# Altium schematic symbol library base-32-bit.SCHLIB: 29 symbols
Pins are listed as number, name and electrical type; pins without a type are passive.

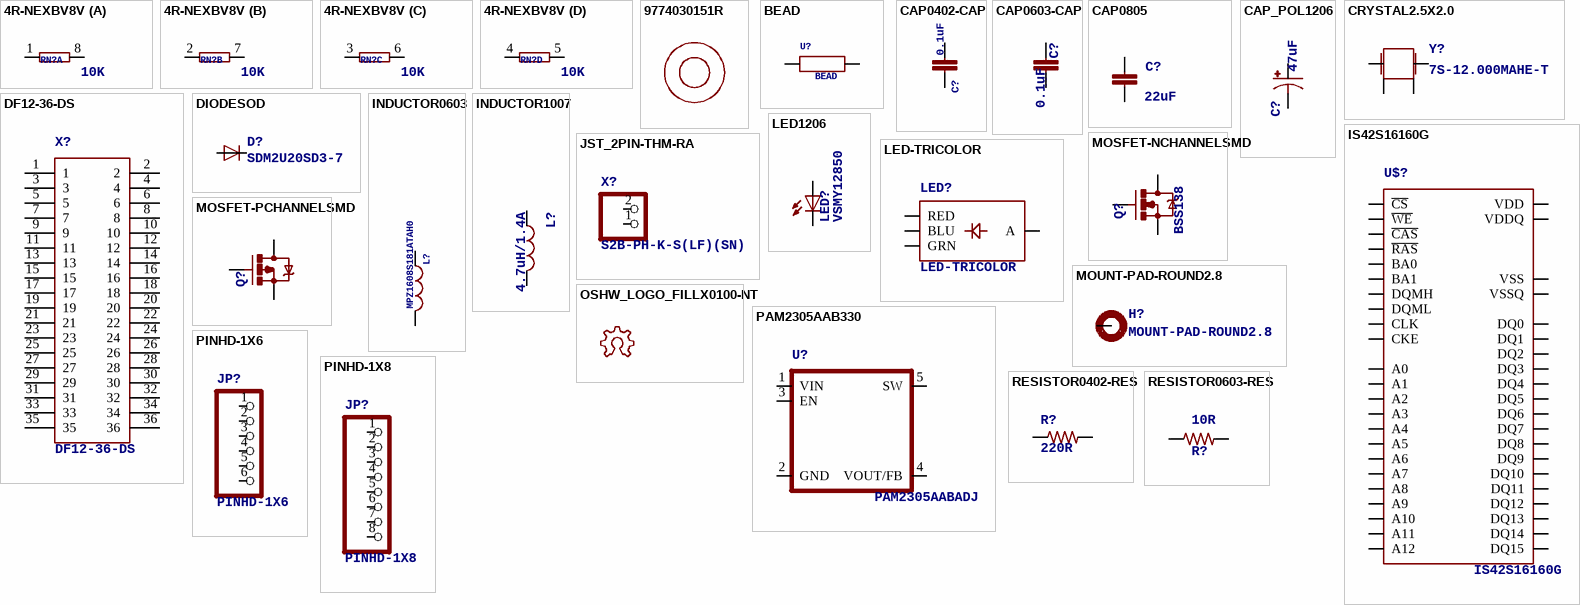
[diagram p0: symbols 4R-NEXBV8V to RESISTOR0603-RES]

## 4R-NEXBV8V
designator RN?, comment 10K
Array Chip Resistor   Source: RS Component / Phycomp; OC_FARNELL: unknown; OC_NEWARK: unknown
footprint EXBV8V
footprint EXBV8V
footprint EXBV8V
footprint EXBV8V
part A pins: 1, 8 2
part B pins: 2 1, 7 2
part C pins: 3 1, 6 2
part D pins: 4 1, 5 2

## 9774030151R
designator M?, comment 9774030243R  (value not drawn)
footprint 9774030151R

## BEAD
designator U?
footprint 0402-CAP
pins: 1, 2

## CAP0402-CAP
designator C?, comment 0.1uF
CapacitorStandard 0603 ceramic capacitor, and 0.1" leaded capacitor.
footprint 0402-CAP
pins: 1, 2

## CAP0603-CAP
designator C?, comment 0.1uF
CapacitorStandard 0603 ceramic capacitor, and 0.1" leaded capacitor.
footprint 0603-CAP
pins: 1, 2

## CAP0805
designator C?, comment 22uF
CapacitorStandard 0603 ceramic capacitor, and 0.1" leaded capacitor.
footprint 0805
pins: 1, 2

## CAP_POL1206
designator C?, comment 47uF
Capacitor PolarizedThese are standard SMD and PTH capacitors. Normally 10uF, 47uF, and 100uF in electrolytic and tantalum varieties. Always verify the external diameter of the through hole cap, it varies with capacity, voltage, and manufacturer. The EIA devices should be standard.
footprint EIA3216
pins: A +, C -

## CRYSTAL2.5X2.0
designator Y?, comment 7S-12.000MAHE-T
CrystalsVarious standard crystals. Proven footprints. Spark Fun Electronics SKU : COM-00534
footprint CRYSTAL-2.5X2.0
pins: 1, 2 P$1 (oe), 3 2, 4 P$2 (oe)

## DF12-36-DS
designator X?
footprint DF12-36-DS
pins: 1, 2, 3, 4, 5, 6, 7, 8, 9, 10, 11, 12, 13, 14, 15, 16, 17, 18, 19, 20, 21, 22, 23, 24, 25, 26, 27, 28, 29, 30, 31, 32, 33, 34, 35, 36

## DIODESOD
designator D?, comment SDM2U20SD3-7
DiodeThese are standard reverse protection diodes and small signal diodes. SMA package can handle up to about 1A. SOD-323 can handle about 200mA. What the SOD-323 package when ordering, there are some mfgs out there that are 5-pin packages.
footprint SOD-323
pins: 1 C, 2 A

## INDUCTOR0603
designator L?, comment MPZ1608S181ATAH0
InductorsBasic Inductor/Choke - 0603 and 1206. Footprints are not proven and vary greatly between part numbers.
footprint 0603
pins: 1, 2

## INDUCTOR1007
designator L?, comment 4.7uH/1.4A
InductorsBasic Inductor/Choke - 0603 and 1206. Footprints are not proven and vary greatly between part numbers.
footprint 1007
pins: 1, 2

## IS42S16160G
designator U$?
footprint TSOPII-54
pins: 1 14 27 VDD (power), 2 DQ0 (hiz), 3 9 43 49 VDDQ (power), 4 DQ1 (hiz), 5 DQ2 (hiz), 6 12 46 52 VSSQ (power), 7 DQ3 (hiz), 8 DQ4 (hiz), 10 DQ5 (hiz), 11 DQ6 (hiz), 13 DQ7 (hiz), 15 DQML, 16 ~{WE}, 17 ~{CAS}, 18 ~{RAS}, 19 ~{CS}, 20 BA0, 21 BA1, 22 A10, 23 A0, 24 A1, 25 A2, 26 A3, 28 41 54 VSS (power), 29 A4, 30 A5, 31 A6, 32 A7, 33 A8, 34 A9, 35 A11, 36 A12, 37 CKE, 38 CLK, 39 DQMH, 42 DQ8 (hiz), 44 DQ9 (hiz), 45 DQ10 (hiz), 47 DQ11 (hiz), 48 DQ12 (hiz), 50 DQ13 (hiz), 51 DQ14 (hiz), 53 DQ15 (hiz)

## JST_2PIN-THM-RA
designator X?, comment S2B-PH-K-S(LF)(SN)
JST 2-Pin Connectors of various flavors SMT-RA (S2B-PH-SM4) 4UConnector #17311  SMT  (B2B-PH-SM4)  THM-RA (S2B-PH)  THM  (B2B-PH)
footprint JST-PH-2-THM-RA
pins: 1 2, 2 1

## LED1206
designator LED?, comment VSMY12850
LEDsStandard schematic elements and footprints for 5mm, 3mm, 1206, and 0603 sized LEDs. 5mm - Spark Fun Electronics SKU : COM-00529 (and others)
footprint LED-1206
pins: A, C

## LED-TRICOLOR
designator LED?
Tri-Color LED SMDProven layout and schematic for triple color LED in SMD package - common anode. Spark Fun Electronics SKU : COM-07844
footprint LED-TRICOLOR-SMD
pins: A, B BLU, G GRN, R RED

## MOSFET-NCHANNELSMD
designator Q?, comment BSS138
footprint SOT23-3
pins: 1 G, 2 S, 3 D

## MOSFET-PCHANNELSMD
designator Q?, comment Si2301BDS  (value not drawn)
footprint SOT23-3
pins: 1 G, 2 S, 3 D

## MOUNT-PAD-ROUND2.8
designator H?
MOUNTING PAD, round
footprint 2,8-PAD
pins: B2,8 MOUNT

## OSHW_LOGO_FILLX0100-NT
designator LOGO?  (value not drawn)
footprint OSHW_FILLX100_NOTEXT

## PAM2305AAB330
designator U?, comment PAM2305AABADJ
footprint TSOT25
pins: 1 VIN (power), 2 GND (power), 3 EN, 4 VOUT/FB, 5 SW (power)

## PINHD-1X6
designator JP?
PIN HEADER
footprint 1X06
pins: 1, 2, 3, 4, 5, 6

## PINHD-1X8
designator JP?
PIN HEADER
footprint 1X08
pins: 1, 2, 3, 4, 5, 6, 7, 8

## RESISTOR0402-RES
designator R?, comment 220R
ResistorBasic schematic elements and footprints for 0603, 1206, and PTH resistors.
footprint 0402-RES
pins: 1, 2

## RESISTOR0603-RES
designator R?, comment 10R
ResistorBasic schematic elements and footprints for 0603, 1206, and PTH resistors.
footprint 0603-RES
pins: 1, 2

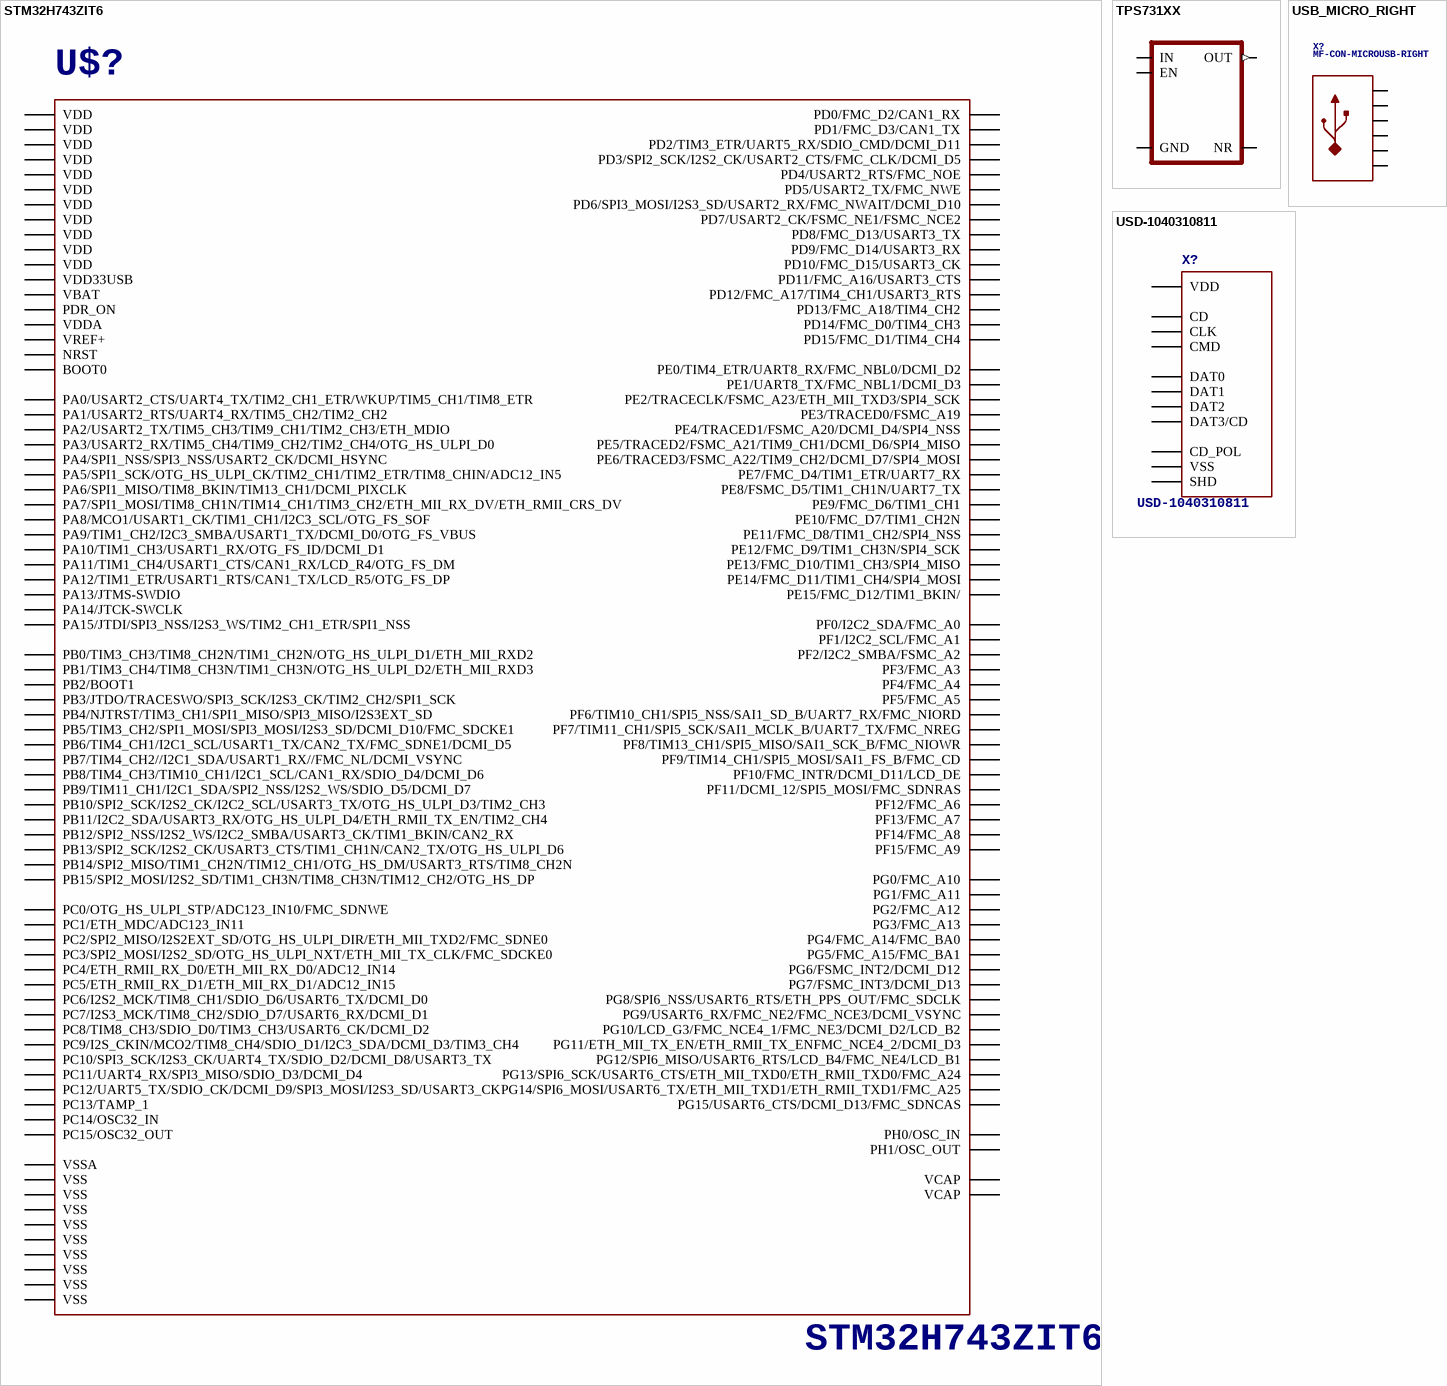
[diagram p1: symbols STM32H743ZIT6 to USD-1040310811]

## STM32H743ZIT6
designator U$?
footprint LQFP144@1
pins: 1 PE2/TRACECLK/FSMC_A23/ETH_MII_TXD3/SPI4_SCK, 2 PE3/TRACED0/FSMC_A19, 3 PE4/TRACED1/FSMC_A20/DCMI_D4/SPI4_NSS, 4 PE5/TRACED2/FSMC_A21/TIM9_CH1/DCMI_D6/SPI4_MISO, 5 PE6/TRACED3/FSMC_A22/TIM9_CH2/DCMI_D7/SPI4_MOSI, 6 VBAT (power), 7 PC13/TAMP_1, 8 PC14/OSC32_IN, 9 PC15/OSC32_OUT, 10 PF0/I2C2_SDA/FMC_A0, 11 PF1/I2C2_SCL/FMC_A1, 12 PF2/I2C2_SMBA/FSMC_A2, 13 PF3/FMC_A3, 14 PF4/FMC_A4, 15 PF5/FMC_A5, 16 VSS (power), 17 VDD (power), 18 PF6/TIM10_CH1/SPI5_NSS/SAI1_SD_B/UART7_RX/FMC_NIORD, 19 PF7/TIM11_CH1/SPI5_SCK/SAI1_MCLK_B/UART7_TX/FMC_NREG, 20 PF8/TIM13_CH1/SPI5_MISO/SAI1_SCK_B/FMC_NIOWR, 21 PF9/TIM14_CH1/SPI5_MOSI/SAI1_FS_B/FMC_CD, 22 PF10/FMC_INTR/DCMI_D11/LCD_DE, 23 PH0/OSC_IN, 24 PH1/OSC_OUT, 25 NRST, 26 PC0/OTG_HS_ULPI_STP/ADC123_IN10/FMC_SDNWE, 27 PC1/ETH_MDC/ADC123_IN11, 28 PC2/SPI2_MISO/I2S2EXT_SD/OTG_HS_ULPI_DIR/ETH_MII_TXD2/FMC_SDNE0, 29 PC3/SPI2_MOSI/I2S2_SD/OTG_HS_ULPI_NXT/ETH_MII_TX_CLK/FMC_SDCKE0, 30 VDD (power), 31 VSSA (power), 32 VREF+ (power), 33 VDDA (power), 34 PA0/USART2_CTS/UART4_TX/TIM2_CH1_ETR/WKUP/TIM5_CH1/TIM8_ETR, 35 PA1/USART2_RTS/UART4_RX/TIM5_CH2/TIM2_CH2, 36 PA2/USART2_TX/TIM5_CH3/TIM9_CH1/TIM2_CH3/ETH_MDIO, 37 PA3/USART2_RX/TIM5_CH4/TIM9_CH2/TIM2_CH4/OTG_HS_ULPI_D0, 38 VSS (power), 39 VDD (power), 40 PA4/SPI1_NSS/SPI3_NSS/USART2_CK/DCMI_HSYNC, 41 PA5/SPI1_SCK/OTG_HS_ULPI_CK/TIM2_CH1/TIM2_ETR/TIM8_CHIN/ADC12_IN5, 42 PA6/SPI1_MISO/TIM8_BKIN/TIM13_CH1/DCMI_PIXCLK, 43 PA7/SPI1_MOSI/TIM8_CH1N/TIM14_CH1/TIM3_CH2/ETH_MII_RX_DV/ETH_RMII_CRS_DV, 44 PC4/ETH_RMII_RX_D0/ETH_MII_RX_D0/ADC12_IN14, 45 PC5/ETH_RMII_RX_D1/ETH_MII_RX_D1/ADC12_IN15, 46 PB0/TIM3_CH3/TIM8_CH2N/TIM1_CH2N/OTG_HS_ULPI_D1/ETH_MII_RXD2, 47 PB1/TIM3_CH4/TIM8_CH3N/TIM1_CH3N/OTG_HS_ULPI_D2/ETH_MII_RXD3, 48 PB2/BOOT1, 49 PF11/DCMI_12/SPI5_MOSI/FMC_SDNRAS, 50 PF12/FMC_A6, 51 VSS (power), 52 VDD (power), 53 PF13/FMC_A7, 54 PF14/FMC_A8, 55 PF15/FMC_A9, 56 PG0/FMC_A10, 57 PG1/FMC_A11, 58 PE7/FMC_D4/TIM1_ETR/UART7_RX, 59 PE8/FSMC_D5/TIM1_CH1N/UART7_TX, 60 PE9/FMC_D6/TIM1_CH1, 61 VSS (power), 62 VDD (power), 63 PE10/FMC_D7/TIM1_CH2N, 64 PE11/FMC_D8/TIM1_CH2/SPI4_NSS, 65 PE12/FMC_D9/TIM1_CH3N/SPI4_SCK, 66 PE13/FMC_D10/TIM1_CH3/SPI4_MISO, 67 PE14/FMC_D11/TIM1_CH4/SPI4_MOSI, 68 PE15/FMC_D12/TIM1_BKIN/, 69 PB10/SPI2_SCK/I2S2_CK/I2C2_SCL/USART3_TX/OTG_HS_ULPI_D3/TIM2_CH3, 70 PB11/I2C2_SDA/USART3_RX/OTG_HS_ULPI_D4/ETH_RMII_TX_EN/TIM2_CH4, 71 VCAP (power), 72 VDD (power), 73 PB12/SPI2_NSS/I2S2_WS/I2C2_SMBA/USART3_CK/TIM1_BKIN/CAN2_RX, 74 PB13/SPI2_SCK/I2S2_CK/USART3_CTS/TIM1_CH1N/CAN2_TX/OTG_HS_ULPI_D6, 75 PB14/SPI2_MISO/TIM1_CH2N/TIM12_CH1/OTG_HS_DM/USART3_RTS/TIM8_CH2N, 76 PB15/SPI2_MOSI/I2S2_SD/TIM1_CH3N/TIM8_CH3N/TIM12_CH2/OTG_HS_DP, 77 PD8/FMC_D13/USART3_TX, 78 PD9/FMC_D14/USART3_RX, 79 PD10/FMC_D15/USART3_CK, 80 PD11/FMC_A16/USART3_CTS, 81 PD12/FMC_A17/TIM4_CH1/USART3_RTS, 82 PD13/FMC_A18/TIM4_CH2, 83 VSS (power), 84 VDD (power), 85 PD14/FMC_D0/TIM4_CH3, 86 PD15/FMC_D1/TIM4_CH4, 87 PG2/FMC_A12, 88 PG3/FMC_A13, 89 PG4/FMC_A14/FMC_BA0, 90 PG5/FMC_A15/FMC_BA1, 91 PG6/FSMC_INT2/DCMI_D12, 92 PG7/FSMC_INT3/DCMI_D13, 93 PG8/SPI6_NSS/USART6_RTS/ETH_PPS_OUT/FMC_SDCLK, 94 VSS (power), 95 VDD33USB (power), 96 PC6/I2S2_MCK/TIM8_CH1/SDIO_D6/USART6_TX/DCMI_D0, 97 PC7/I2S3_MCK/TIM8_CH2/SDIO_D7/USART6_RX/DCMI_D1, 98 PC8/TIM8_CH3/SDIO_D0/TIM3_CH3/USART6_CK/DCMI_D2, 99 PC9/I2S_CKIN/MCO2/TIM8_CH4/SDIO_D1/I2C3_SDA/DCMI_D3/TIM3_CH4, 100 PA8/MCO1/USART1_CK/TIM1_CH1/I2C3_SCL/OTG_FS_SOF, 101 PA9/TIM1_CH2/I2C3_SMBA/USART1_TX/DCMI_D0/OTG_FS_VBUS, 102 PA10/TIM1_CH3/USART1_RX/OTG_FS_ID/DCMI_D1, 103 PA11/TIM1_CH4/USART1_CTS/CAN1_RX/LCD_R4/OTG_FS_DM, 104 PA12/TIM1_ETR/USART1_RTS/CAN1_TX/LCD_R5/OTG_FS_DP, 105 PA13/JTMS-SWDIO, 106 VCAP (power), 107 VSS (power), 108 VDD (power), 109 PA14/JTCK-SWCLK, 110 PA15/JTDI/SPI3_NSS/I2S3_WS/TIM2_CH1_ETR/SPI1_NSS, 111 PC10/SPI3_SCK/I2S3_CK/UART4_TX/SDIO_D2/DCMI_D8/USART3_TX, 112 PC11/UART4_RX/SPI3_MISO/SDIO_D3/DCMI_D4, 113 PC12/UART5_TX/SDIO_CK/DCMI_D9/SPI3_MOSI/I2S3_SD/USART3_CK, 114 PD0/FMC_D2/CAN1_RX, 115 PD1/FMC_D3/CAN1_TX, 116 PD2/TIM3_ETR/UART5_RX/SDIO_CMD/DCMI_D11, 117 PD3/SPI2_SCK/I2S2_CK/USART2_CTS/FMC_CLK/DCMI_D5, 118 PD4/USART2_RTS/FMC_NOE, 119 PD5/USART2_TX/FMC_NWE, 120 VSS (power), 121 VDD (power), 122 PD6/SPI3_MOSI/I2S3_SD/USART2_RX/FMC_NWAIT/DCMI_D10, 123 PD7/USART2_CK/FSMC_NE1/FSMC_NCE2, 124 PG9/USART6_RX/FMC_NE2/FMC_NCE3/DCMI_VSYNC, 125 PG10/LCD_G3/FMC_NCE4_1/FMC_NE3/DCMI_D2/LCD_B2, 126 PG11/ETH_MII_TX_EN/ETH_RMII_TX_ENFMC_NCE4_2/DCMI_D3, 127 PG12/SPI6_MISO/USART6_RTS/LCD_B4/FMC_NE4/LCD_B1, 128 PG13/SPI6_SCK/USART6_CTS/ETH_MII_TXD0/ETH_RMII_TXD0/FMC_A24, 129 PG14/SPI6_MOSI/USART6_TX/ETH_MII_TXD1/ETH_RMII_TXD1/FMC_A25, 130 VSS (power), 131 VDD (power), 132 PG15/USART6_CTS/DCMI_D13/FMC_SDNCAS, 133 PB3/JTDO/TRACESWO/SPI3_SCK/I2S3_CK/TIM2_CH2/SPI1_SCK, 134 PB4/NJTRST/TIM3_CH1/SPI1_MISO/SPI3_MISO/I2S3EXT_SD, 135 PB5/TIM3_CH2/SPI1_MOSI/SPI3_MOSI/I2S3_SD/DCMI_D10/FMC_SDCKE1, 136 PB6/TIM4_CH1/I2C1_SCL/USART1_TX/CAN2_TX/FMC_SDNE1/DCMI_D5, 137 PB7/TIM4_CH2//I2C1_SDA/USART1_RX//FMC_NL/DCMI_VSYNC, 138 BOOT0, 139 PB8/TIM4_CH3/TIM10_CH1/I2C1_SCL/CAN1_RX/SDIO_D4/DCMI_D6, 140 PB9/TIM11_CH1/I2C1_SDA/SPI2_NSS/I2S2_WS/SDIO_D5/DCMI_D7, 141 PE0/TIM4_ETR/UART8_RX/FMC_NBL0/DCMI_D2, 142 PE1/UART8_TX/FMC_NBL1/DCMI_D3, 143 PDR_ON, 144 VDD (power)

## TPS731XX
designator U?  (value not drawn)
footprint SOT23-5
pins: 1 IN, 2 GND, 3 EN, 4 NR, 5 OUT (out)

## USB_MICRO_RIGHT
designator X?, comment MF-CON-MICROUSB-RIGHT
Library:  MF_Connectors Description: 5 Pin USB Connectors. SLD is the shield connection. Usually tied to ground through a small ferrite bead.
footprint MICROUSB-RIGHT
pins: 1 5V (power), 2 D-, 3 D+, 4 ID, 5 GND (power), S SLD

## USD-1040310811
designator X?
footprint 1040310811
pins: CD$1 CD (power), CD$2 CD_POL (power), G SHD (power), P$1 DAT2, P$2 DAT3/CD, P$3 CMD, P$4 VDD (power), P$5 CLK, P$6 VSS (power), P$7 DAT0, P$8 DAT1